# EAGLE library part DS1302 (library Fitch_Eagle_Library)
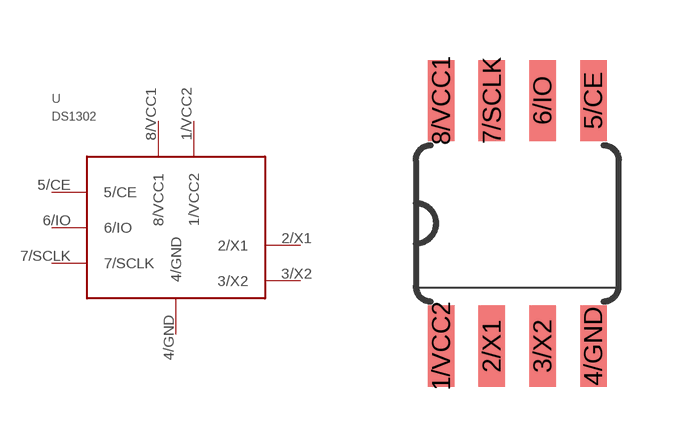
[diagram p20: symbol with the pads of DS1302; footprint DS1302]

Designator prefix -

## DS1302  [DS1302]
1/VCC2  1/VCC2
2/X1  2/X1
3/X2  3/X2
4/GND  4/GND
5/CE  5/CE
6/IO  6/IO
7/SCLK  7/SCLK
8/VCC1  8/VCC1

## Footprint DS1302 (pad centres in mm)
smd 0.66 x 2.032: 1/VCC2 -1.905,-3.073; 2/X1 -0.635,-3.073; 3/X2 0.635,-3.073; 4/GND 1.905,-3.073; 5/CE 1.905,3.073; 6/IO 0.635,3.073; 7/SCLK -0.635,3.073; 8/VCC1 -1.905,3.073